# EAGLE library part JP6 (library jump)
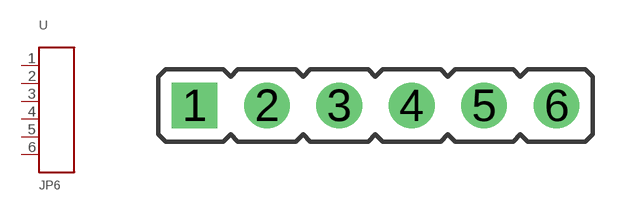
[diagram p1: symbol with the pads of CON6; footprint CON6]

Designator prefix -

## JP6  [CON6]
1  P$1
2  P$2
3  P$3
4  P$4
5  P$5
6  P$6

## Footprint CON6 (pad centres in mm)
JUMPER
drill 1.067 square: 1 0,0
drill 1.067 round: 2 2.54,0; 3 5.08,0; 4 7.62,0; 5 10.16,0; 6 12.7,0